# EAGLE library part MPU-6050 (library MPU-6050)
MPU-6050 Six-Axis (Gyro + Accelerometer) MEMS MotionTracking™ Devices
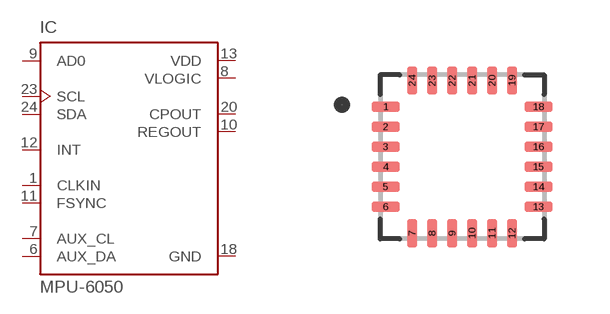
[diagram p0: symbol with the pads of QFN50P400X400X95-24N; footprint QFN50P400X400X95-24N]

Designator prefix IC

## MPU-6050 (AVAILABILITY: Unavailable; DESCRIPTION: 3-axis gyroscope, 3-axis accelerometer in a 4x4x0.9 housing; MF: TDK InvenSense; MP: MPU-6050; PACKAGE: QFN-24 InvenSense; PRICE: None)  [QFN50P400X400X95-24N]
1  CLKIN  in
6  AUX_DA
7  AUX_CL  out
8  VLOGIC  pwr
9  AD0  in
10  REGOUT  pas
11  FSYNC  in
12  INT  out
13  VDD  pwr
18  GND  pwr
20  CPOUT  pas
23  SCL  in
24  SDA

## Footprint QFN50P400X400X95-24N (pad centres in mm)
smd 0.71 x 0.26: 1 -1.91,1.25; 2 -1.91,0.75; 3 -1.91,0.25; 4 -1.91,-0.25; 5 -1.91,-0.75; 6 -1.91,-1.25; 13 1.91,-1.25; 14 1.91,-0.75; 15 1.91,-0.25; 16 1.91,0.25; 17 1.91,0.75; 18 1.91,1.25
smd 0.26 x 0.71: 7 -1.25,-1.91; 8 -0.75,-1.91; 9 -0.25,-1.91; 10 0.25,-1.91; 11 0.75,-1.91; 12 1.25,-1.91; 19 1.25,1.91; 20 0.75,1.91; 21 0.25,1.91; 22 -0.25,1.91; 23 -0.75,1.91; 24 -1.25,1.91